# EAGLE library part ADG732 (library JSB2)
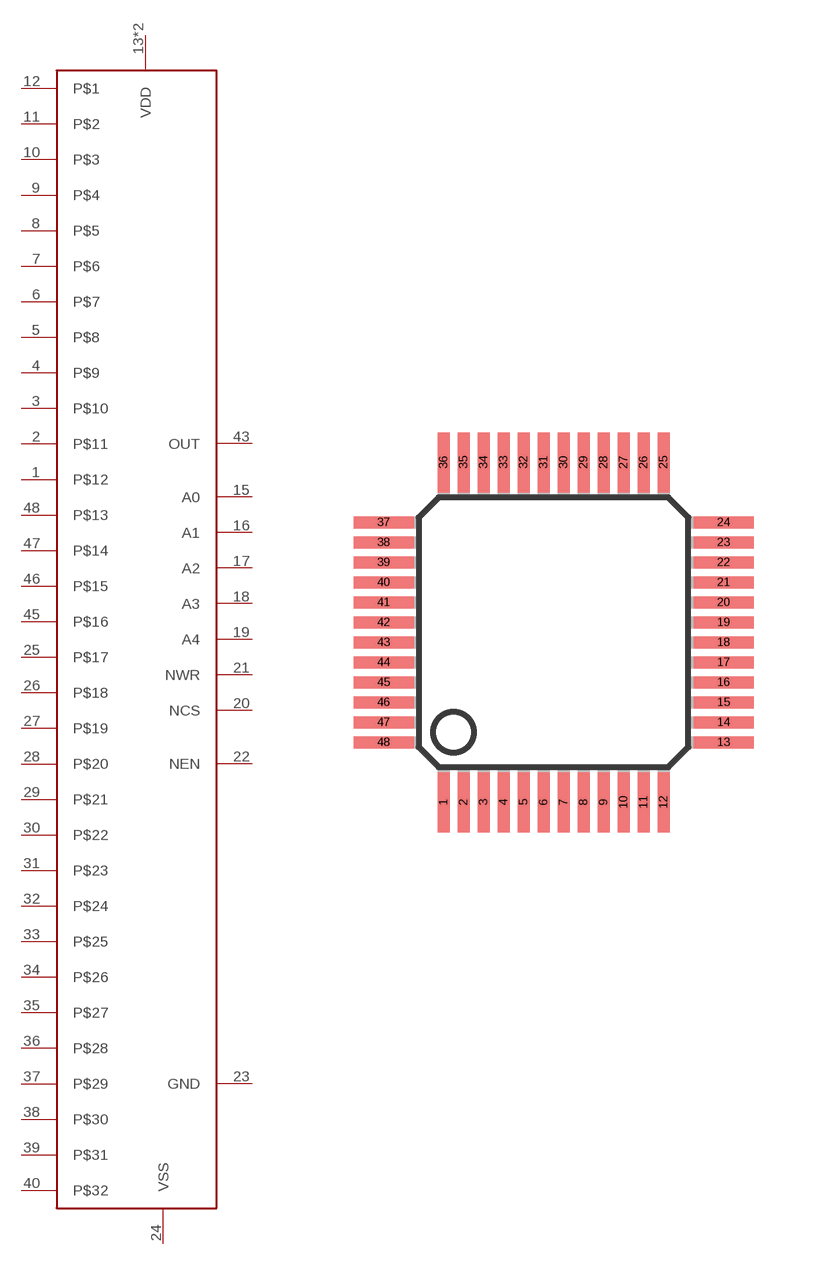
[diagram p0: symbol with the pads of TQFP48; footprint TQFP48]

Designator prefix -

## ADG732  [TQFP48]
1  P$12
2  P$11
3  P$10
4  P$9
5  P$8
6  P$7
7  P$6
8  P$5
9  P$4
10  P$3
11  P$2
12  P$1
13  VDD
14  VDD
15  A0
16  A1
17  A2
18  A3
19  A4
20  NCS
21  NWR
22  NEN
23  GND
24  VSS
25  P$17
26  P$18
27  P$19
28  P$20
29  P$21
30  P$22
31  P$23
32  P$24
33  P$25
34  P$26
35  P$27
36  P$28
37  P$29
38  P$30
39  P$31
40  P$32
43  OUT
45  P$16
46  P$15
47  P$14
48  P$13

## Footprint TQFP48 (pad centres in mm)
Thin Quad Flat Pack
smd 0.3 x 1.5: 1 -2.75,-4.25; 2 -2.25,-4.25; 3 -1.75,-4.25; 4 -1.25,-4.25; 5 -0.75,-4.25; 6 -0.25,-4.25; 7 0.25,-4.25; 8 0.75,-4.25; 9 1.25,-4.25; 10 1.75,-4.25; 11 2.25,-4.25; 12 2.75,-4.25; 25 2.75,4.25; 26 2.25,4.25; 27 1.75,4.25; 28 1.25,4.25; 29 0.75,4.25; 30 0.25,4.25; 31 -0.25,4.25; 32 -0.75,4.25; 33 -1.25,4.25; 34 -1.75,4.25; 35 -2.25,4.25; 36 -2.75,4.25
smd 1.5 x 0.3: 13 4.25,-2.75; 14 4.25,-2.25; 15 4.25,-1.75; 16 4.25,-1.25; 17 4.25,-0.75; 18 4.25,-0.25; 19 4.25,0.25; 20 4.25,0.75; 21 4.25,1.25; 22 4.25,1.75; 23 4.25,2.25; 24 4.25,2.75; 37 -4.25,2.75; 38 -4.25,2.25; 39 -4.25,1.75; 40 -4.25,1.25; 41 -4.25,0.75; 42 -4.25,0.25; 43 -4.25,-0.25; 44 -4.25,-0.75; 45 -4.25,-1.25; 46 -4.25,-1.75; 47 -4.25,-2.25; 48 -4.25,-2.75